# Altium footprint library Card_holders.PcbLib: 1 footprints
Each footprint in its own frame and in the unit in brackets; x right, y up, seen from the top. Pads: shape width x height; smd on the part's side, far side on the other; paste and mask are expansions set on the pad; w line width, h text height; cw(c..) or ccw(c..) is an arc to the next point about the centre after c.
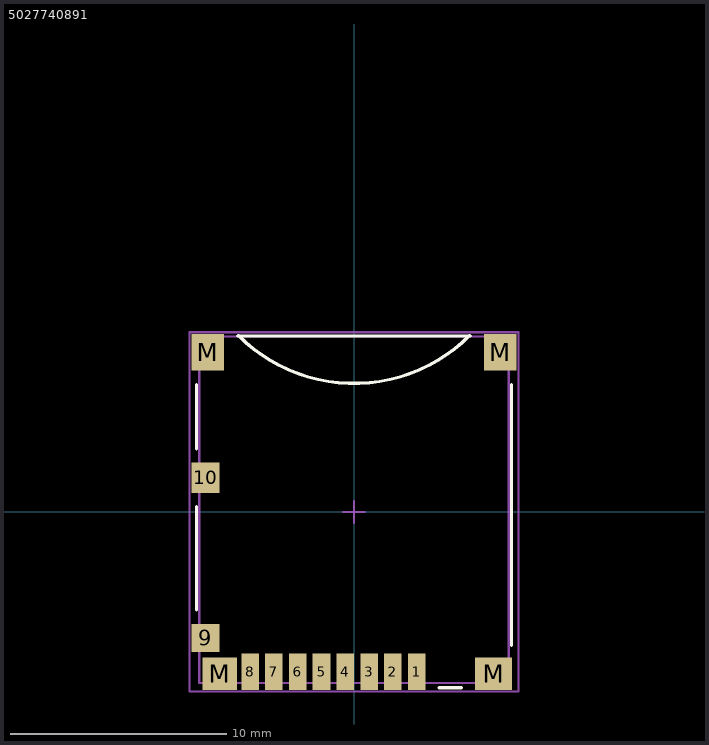
[diagram p0: the footprint, top view; thin cyan lines are the x and y axes]

## 5027740891 [mil] "Molex micro-SD holder push-push"
height 70.87
pads (14):
  rect 32x66 smd paste+0 mask+1.97: 1(114.13,-290.83) 2(70.83,-290.83) 3(27.52,-290.83) 4(-15.79,-290.83) 5(-59.09,-290.83) 6(-102.4,-290.83) 7(-145.71,-290.83) 8(-189.02,-290.83)
  rect 51x51 smd mask+1.97: 9(-270.04,-229.25)
  rect 51x55 smd paste+0 mask+1.97: 10(-270.04,62.09)
  rect 59x67 smd mask+1.97: M(-265.77,290.33) M(265.77,290.33)
  rect 63x59 smd mask+1.97: M(-244.14,-294.33)
  rect 67x59 smd mask+1.97: M(253.92,-294.33)
Top Overlay:
  lines w5.91: -210.63,320.87 ccw(c0,531.5) 210.63,320.87
  lines w6: -286.5,-178 -286.5,10 ; -286.5,114.83 -286.5,231.83 ; -211.27,320 211.27,320 ; 155.13,-320 195.53,-320 ; 286.5,-243.07 286.5,231.83
Top Assembly (Mech3):
  lines w3.94: -281.49,-311.03 281.5,-311.03 281.5,318.9 -281.49,318.9 -281.49,-311.03
Top Courtyard:
  lines w3.94: -19.68,0 19.69,0 ; 0,-19.69 0,19.68 ; -299.21,-326.77 299.21,-326.77 299.21,326.77 -299.21,326.77 -299.21,-326.77
3D body "5027740891.stp": height 70.08, standoff -0.79, extent -281.49,-311.03 281.5,318.9